# Altium integrated library Switch_Load.IntLib: 1 symbol
Pins are listed as number, name and electrical type; pins without a type are passive.

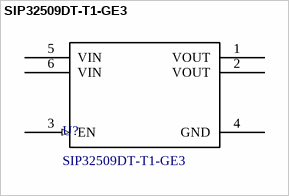
[diagram p0: symbol SIP32509DT-T1-GE3]

## SIP32509DT-T1-GE3
designator U?
Power Switch/Driver 1:1 N-Channel 3A TSOT-23-6; Manufacturer 1: Vishay Siliconix; Manufacturer Part Number 1: SIP32509DT-T1-GE3; Supplier 1: Digi-Key; Supplier Part Number 1: SIP32509DT-T1-GE3CT-ND
footprint SOT95P285X110-6N (SOT23, 6-Leads, Body 2.98x2.85mm, Pitch 0.95mm, IPC Medium Density)
pins: 1 VOUT, 2 VOUT, 3 EN (in), 4 GND, 5 VIN, 6 VIN